# Altium footprint library 2604-1103.PcbLib: 1 footprints
Each footprint in its own frame and in the unit in brackets; x right, y up, seen from the top. Pads: shape width x height; smd on the part's side, far side on the other; paste and mask are expansions set on the pad; w line width, h text height; cw(c..) or ccw(c..) is an arc to the next point about the centre after c.
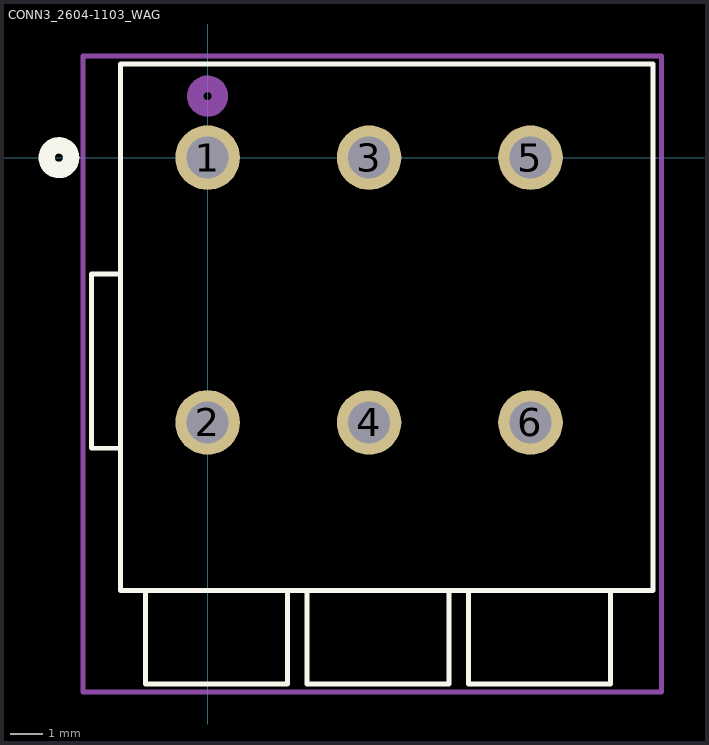
[diagram p0: the footprint, top view; thin cyan lines are the x and y axes]

## CONN3_2604-1103_WAG [mm]
pads (6):
  round 2 / inner round 1.524 / far side round 2 hole 1.3 paste-2539.97 mask+0: 1(0,0) 2(0,-8.2) 3(5,0) 4(5,-8.2) 5(10,0) 6(10,-8.2)
Top Overlay:
  circle w0.508: c-4.605,0 r0.381
  lines w0.152: -2.7,-9 -3.6,-9 -3.6,-3.6 -2.7,-3.6 ; -1.92,-13.4 -1.92,-16.3 2.48,-16.3 2.48,-13.4 ; 3.08,-13.4 3.08,-16.3 7.48,-16.3 7.48,-13.4 ; 8.08,-13.4 8.08,-16.3 12.48,-16.3 12.48,-13.4 ; -2.7,-13.4 -2.7,2.9 13.8,2.9 13.8,-13.4 -2.7,-13.4
Bottom Overlay:
  circle w0.508: c-4.605,0 r0.381
Mechanical 13:
  circle w0.508: c0,1.905 r0.381
  lines w0.025: -2.7,-9 -3.6,-9 -3.6,-3.6 -2.7,-3.6 ; -1.92,-13.4 -1.92,-16.3 2.48,-16.3 2.48,-13.4 ; 3.08,-13.4 3.08,-16.3 7.48,-16.3 7.48,-13.4 ; 8.08,-13.4 8.08,-16.3 12.48,-16.3 12.48,-13.4 ; -2.7,-13.4 -2.7,2.9 13.8,2.9 13.8,-13.4 -2.7,-13.4
Mechanical 15:
  lines w0.152: -3.854,-16.554 14.054,-16.554 14.054,3.154 -3.854,3.154 ; -3.854,-16.554 -3.854,3.154 ; -3.854,-16.554 -3.854,3.154
3D body "2604-1103.step": height 16.7, standoff -4, extent -3.6,-16.4 13.8,2.8